# Altium schematic symbol library diodes.SchLib: 23 symbols
Pins are listed as number, name and electrical type; pins without a type are passive.

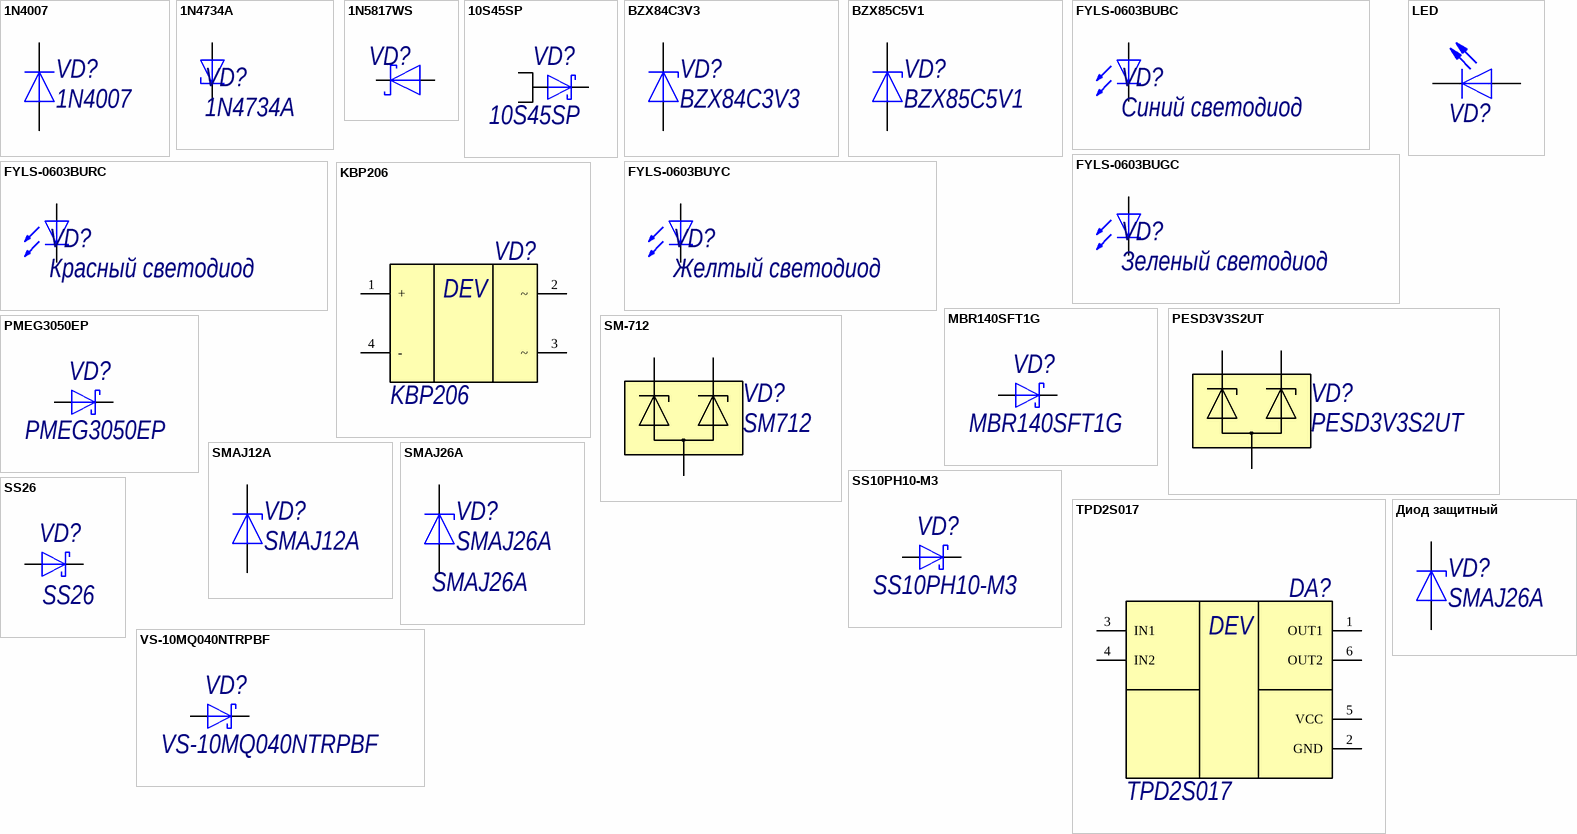
[diagram p0: symbols 1N4007 to Диод защитный]

## 1N4007
designator VD?
Диод выпрямиельный 1000В 1А; Name: 1N4007
pins: 1 A, 3 K

## 1N4734A
designator VD?
Стабилитрон 5.6В, 5%, 1Вт, 1N4734A; Voltage MAX: 5.88; Voltage MIN: 5.32; Name: 1N4734A; ComponentLink1Description: HelpURL; ComponentLink1URL: https://www.promelec.ru/fs/sources/54/98/aa/7a/f161d9308e45db5c55639eb6.pdf
footprint DO-41 (zener diode)
footprint DO-41 Vertical
pins: 1 A, 2 K

## 1N5817WS
designator VD?  (value not drawn)
Диод Шоттки 1N5817WS 20V 1А 0.45V; Производитель: Hottech Co. Ltd; current: 1A; voltage: 20В; drop voltage: 0,45В; Name: 1N5817WS
footprint SOD323
pins: 1 K, 2 A

## 10S45SP
designator VD?
Диод Шоттки 45В 10А; Manufacturer: YFW; Name: 10S45SP
footprint TO-277A (SMPC (TO-277A))
pins: 1 A, 2 A, 3 K

## BZX84C3V3
designator VD?
Стабилитрон 3,3В; Name: BZX84C3V3
footprint SOT23-3 (SOT23, 3-Leads, Body 2,90x2,30mm, Pitch 0,95mm, IPC Medium Density)
pins: 1 A, 3 K

## BZX85C5V1
designator VD?
Стабилитрон 5,1В; Name: BZX85C5V1
footprint DO-41 Vertical
pins: 1 A, 3 K

## FYLS-0603BUBC
designator VD?, comment Синий светодиод
Светодтод синий SMD Foryard Optoelectronics Co.; Name: Синий светодиод
footprint VD0603
footprint VD0603 - no point
pins: 1 A, 2 K

## FYLS-0603BUGC
designator VD?, comment Зеленый светодиод
Светодтод зеленый SMD Foryard Optoelectronics Co.; Name: Зеленый светодиод
footprint VD0603
footprint VD0603 - no point
pins: 1 A, 2 K

## FYLS-0603BURC
designator VD?, comment Красный светодиод
Светодтод красный SMD Foryard Optoelectronics Co.; Name: Красный светодиод
footprint VD0603
footprint VD0603 - no point
pins: 1 A, 2 K

## FYLS-0603BUYC
designator VD?, comment Желтый светодиод
Светодтод желтый SMD Foryard Optoelectronics Co.; Name: Желтый светодиод
footprint VD0603
footprint VD0603 - no point
pins: 1 A, 2 K

## KBP206
designator VD?
Диодный мост; Manufacturer: DC Components; Name: KBP206
footprint KBP (Вертикальный диодный мост)
pins: 1 +, 2 ~, 3 ~, 4 -
text: DEV

## LED
designator VD?
Светодиод
footprint LED_0603
pins: 1 K, 2 A

## MBR140SFT1G
designator VD?
Диод Шоттки 40В 1А; Name: MBR140SFT1G
footprint SOD123
pins: 1 K, 2 A

## PESD3V3S2UT
designator VD?
Сборка TVS-диодов; Name: PESD3V3S2UT
pins: 1, 2, 3

## PMEG3050EP
designator VD?
Диод Шоттки 30В 5А; Manufacturer: NXP; Name: PMEG3050EP
footprint SOD128
pins: 1 K, 2 A

## SM-712
designator VD?, comment SM712
Сборка TVS-диодов для RS485; Name: SM712
footprint SOT23-3 (SOT23, 3-Leads, Body 2,90x2,30mm, Pitch 0,95mm, IPC Medium Density)
pins: 1, 2, 3

## SMAJ12A
designator VD?
Диод защитный 12В; Name: SMAJ12A
pins: 1 K, 2 A

## SMAJ26A
designator VD?
Диод защитный; Name: SMAJ26A
footprint SMA
pins: 1 K, 2 A

## SS10PH10-M3
designator VD?
Диод Шоттки 100В 10А; Manufacturer: Vishay; Name: SS10PH10-M3
footprint TO-277A (SMPC (TO-277A))
pins: 1 K, 2 A

## SS26
designator VD?
Диод Шоттки 60В 2А; Manufacturer: Vishay Intertechnology; Name: SS26
footprint SMA
pins: 1 K, 2 A

## TPD2S017
designator DA?
ESD защита; Manufacturer: Texas Instruments; Name: TPD2S017
footprint SOT23-6
pins: 1 OUT1, 2 GND, 3 IN1, 4 IN2, 5 VCC, 6 OUT2
text: DEV

## VS-10MQ040NTRPBF
designator VD?
Диод Шоттки 40В 1,5А; Manufacturer: Vishay; Name: VS-10MQ040NTRPBF
footprint SMA
pins: 1 K, 2 A

## Диод защитный
designator VD?, comment SMAJ26A
Диод защитный; Name: SMAJ26A
pins: 1 K, 2 A